# EAGLE library part MSP430FR2110 (library CubeSat3)
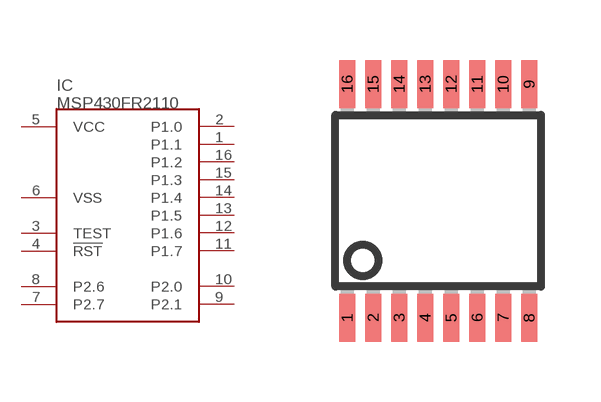
[diagram p5: symbol with the pads of SSOP16; footprint SSOP16]

Designator prefix IC

## MSP430FR2110PW  [SSOP16]
1  P1.1
2  P1.0
3  TEST
4  !RST
5  VCC
6  VSS
7  P2.7
8  P2.6
9  P2.1
10  P2.0
11  P1.7
12  P1.6
13  P1.5
14  P1.4
15  P1.3
16  P1.2

## Footprint SSOP16 (pad centres in mm)
Small Shrink Outline Package
smd 0.4 x 1.2: 1 -2.275,-2.925; 2 -1.625,-2.925; 3 -0.975,-2.925; 4 -0.325,-2.925; 5 0.325,-2.925; 6 0.975,-2.925; 7 1.625,-2.925; 8 2.275,-2.925; 9 2.275,2.925; 10 1.625,2.925; 11 0.975,2.925; 12 0.325,2.925; 13 -0.325,2.925; 14 -0.975,2.925; 15 -1.625,2.925; 16 -2.275,2.925